# Altium schematic symbol library SN74LVC4245ADW.SchLib: 1 symbol
Pins are listed as number, name and electrical type; pins without a type are passive.

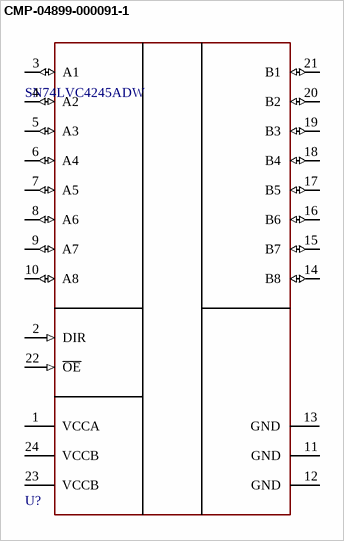
[diagram p0: symbol CMP-04899-000091-1]

## CMP-04899-000091-1
designator U?, comment SN74LVC4245ADW
IC TRNSLTR BIDIRECTIONAL 24SOIC; Number of Bits: 8; Low Level Output Current: 24mA; Output Type: Voltage; Propagation Delay: 9.8ns; Min Supply Voltage: 4.5V; Number of Elements: 1; Turn-On Delay Time: 6.7ns; Max Supply Current: 80uA; Max Supply Voltage: 5.5V; Polarity: Non-Inverting; Logic Function: Translator; Operating Supply Voltage: 5V; High Level Output Current: -24mA; Case/Package: SOIC; Height: 2.35mm; Width: 7.52mm; Number of Pins: 24; Weight: 0.022025oz; Lead Free: Lead Free; Packaging: Rail/Tube; Number of Channels: 8; Series: 74LVC; REACH SVHC: No SVHC; RoHS Compliant: Yes; Mount: Surface Mount; Length: 15.4mm; Package Quantity: 25; Radiation Hardening: No; Contact Plating: Gold; Quiescent Current: 80uA; Max Operating Temperature: 85°C; Direction: Bidirectional; Number of Outputs: 8; Technology: CMOS; Min Operating Temperature: -40°C; Number of Circuits: 8
footprint FP-DW0024A-MFG
pins: 1 VCCA (power), 2 DIR (in), 3 A1 (io), 4 A2 (io), 5 A3 (io), 6 A4 (io), 7 A5 (io), 8 A6 (io), 9 A7 (io), 10 A8 (io), 11 GND (power), 12 GND (power), 13 GND (power), 14 B8 (io), 15 B7 (io), 16 B6 (io), 17 B5 (io), 18 B4 (io), 19 B3 (io), 20 B2 (io), 21 B1 (io), 22 ~{OE} (in), 23 VCCB (power), 24 VCCB (power)